# EAGLE library part BQ24075TRGTR (library BQ24075TRGTR)
1.5A USB-Friendly Li-Ion Battery Charger and Power-Path Management IC with 4.2 VBAT Source: Datasheet <http://componentsearchengine.com/Datasheets/1/BQ24075TRGTR.pdf>
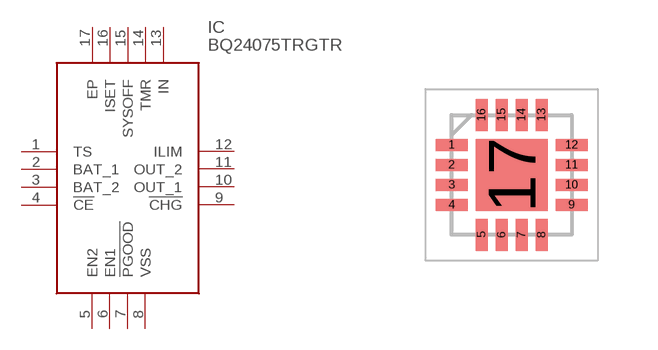
[diagram p0: symbol with the pads of QFN50P300X300X100-17N; footprint QFN50P300X300X100-17N]

Designator prefix IC

## BQ24075TRGTR (Description: 1.5A USB-Friendly Li-Ion Battery Charger and Power-Path Management IC with 4.2 VBAT; Height: 1mm; Manufacturer_Name: Texas Instruments; Manufacturer_Part_Number: BQ24075TRGTR; Mouser_Part_Number: 595-BQ24075TRGTR; Mouser_Price-Stock: https://www.mouser.co.uk/ProductDetail/Texas-Instruments/BQ24075TRGTR?qs=%2Fqzd9s%252BcLd4uxZAT5jNskQ%3D%3D)  [QFN50P300X300X100-17N]
1  TS
2  BAT_1
3  BAT_2
4  !CE
5  EN2
6  EN1
7  !PGOOD
8  VSS
9  !CHG
10  OUT_1
11  OUT_2
12  ILIM
13  IN
14  TMR
15  SYSOFF
16  ISET
17  EP

## Footprint QFN50P300X300X100-17N (pad centres in mm)
RGT(PVQFN-16)
smd 0.8 x 0.3: 1 -1.5,0.75; 2 -1.5,0.25; 3 -1.5,-0.25; 4 -1.5,-0.75; 9 1.5,-0.75; 10 1.5,-0.25; 11 1.5,0.25; 12 1.5,0.75
smd 0.3 x 0.8: 5 -0.75,-1.5; 6 -0.25,-1.5; 7 0.25,-1.5; 8 0.75,-1.5; 13 0.75,1.5; 14 0.25,1.5; 15 -0.25,1.5; 16 -0.75,1.5
smd 1.8 x 1.8: 17 0,0